# Altium schematic symbol library Analog Devices Amplifiers and Linear Comparators.SchLib: 160 symbols (part 4 of 9)
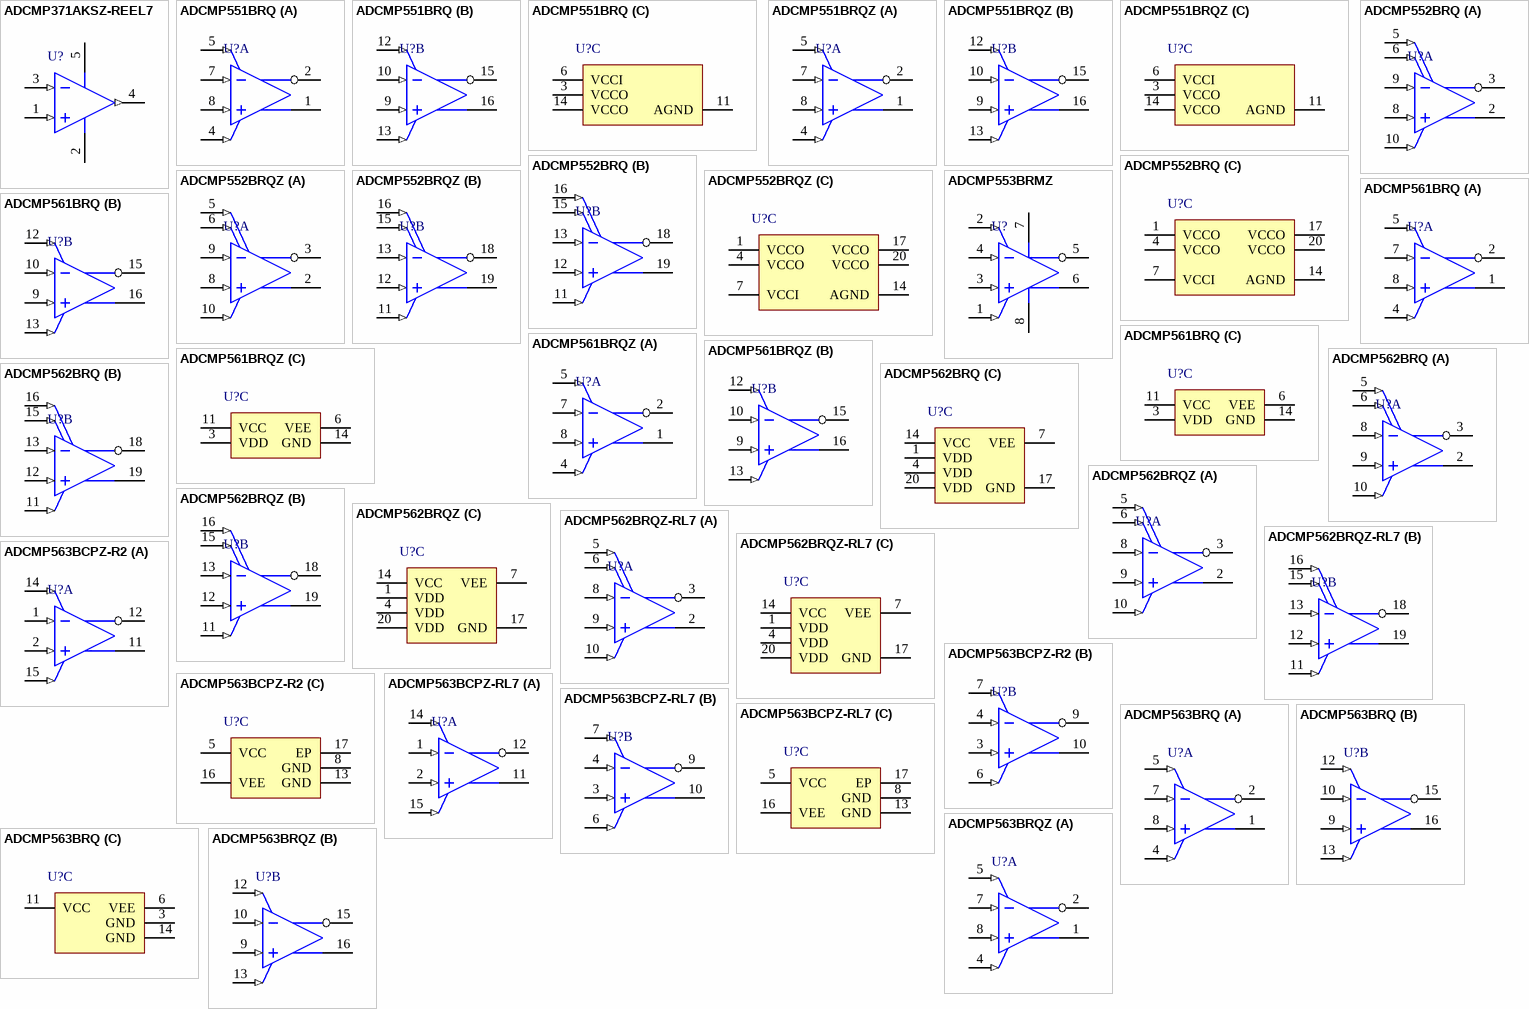
[diagram p10: symbols ADCMP371AKSZ-REEL7 to ADCMP563BRQZ]

## ADCMP551BRQZ
designator U?
Single-Supply, High Speed PECL / LVPECL Comparator, 3.3 to 5 V, 500 ps Delay, Industrial, 16-pin SOP (RQ-16), Tube; Manufacturer: Analog Devices; PartNumber: ADCMP551BRQZ; Input Range (V): -0.2 to VCCI-2; Voltage Supply (V): 3.135 to 5.25; DatasheetVersion: Rev. 0; PackageVersion: Aug-05; PackageReference: RQ-16; PackageDescription: 16-Pin Shrink Small Outline Package, Body 4.9 x 3.9 mm, Pitch 0.64 mm; Supplier 1: Digi-Key; Supplier Part Number 1: ADCMP551BRQZ-ND; Supplier 2: Mouser; Supplier Part Number 2: 584-ADCMP551BRQZ; Packing: Tube; Mounting Technology: Surface Mount; Code_JEDEC: MO-137-AB; ComponentLink1Description: Manufacturer URL; ComponentLink1URL: http://www.analog.com/en/index.html; ComponentLink2Description: Datasheet; ComponentLink2URL: http://www.analog.com/static/imported-files/data_sheets/ADCMP551_552_553.pdf; ComponentLink3Description: Package Specification; ComponentLink3URL: http://www.analog.com/static/imported-files/packages/5595549651201762937RQ_16.pdf; ComponentLink4Description: URL Link1; ComponentLink4URL: Product URL:http://www.analog.com/en/special-linear-functions/comparators/adcmp551/products/product.html
footprint ADI-RQ-16_N (SOP, 16-Leads, Body 4.9x3.9mm, Pitch 0.64mm, IPC Medium Density)
footprint ADI-RQ-16_L (SOP, 16-Leads, Body 4.9x3.9mm, Pitch 0.64mm, IPC High Density)
footprint ADI-RQ-16_M (SOP, 16-Leads, Body 4.9x3.9mm, Pitch 0.64mm, IPC Low Density)
part A pins: 1 QA (oe) "One of Two Complementary Outputs for Channel A. QA is logic high if the analog voltage at the noninverting input is greater than the analog voltage at the inverting input (provided the comparator is in the compare mode). See (See Datasheet)", 2 ~{QA} (oe) "One of Two Complementary Outputs for Channel A. Q\A\ is logic low if the analog voltage at the noninverting input is greater than the analog voltage at the inverting input (provided the comparator is in the compare mode). (See Datasheet)", 4 LEA (in) "One of Two Complementary Outputs for Channel A Latch Enable. In the compare mode (logic high), the output tracks changes at the input of the comparator. In the latch mode (logic low), the output reflects the input state just (See Datasheet)", 5 ~{LEA} (in) "One of Two Complementary Outputs for Channel A Latch Enable. In the compare mode (logic high), the output tracks changes at the input of the comparator. In the latch mode (logic low), the output reflects the input state just (See Datasheet)", 7 -INA (in) "Inverting Analog Input of the Differential Input Stage for Channel A. The inverting A input must be driven in conjunction with the noninverting A input.", 8 +INA (in) "Noninverting Analog Input of the Differential Input Stage for Channel A. The noninverting A input must be driven in conjunction with the inverting A input."
part B pins: 9 +INB (in) "Noninverting Analog Input of the Differential Input Stage for Channel B. The noninverting B input must be driven in conjunction with the inverting B input.", 10 -INB (in) "Inverting Analog Input of the Differential Input Stage for Channel B. The inverting B input must be driven in conjunction with the noninverting B input.", 12 ~{LEB} (in) "One of Two Complementary Inputs for Channel B Latch Enable. In the compare mode (logic low), the output tracks changes at the input of the comparator. In the latch mode (logic high), the output reflects the input state just (See Datasheet)", 13 LEB (in) "One of Two Complementary Inputs for Channel B Latch Enable. In the compare mode (logic low), the output tracks changes at the input of the comparator. In the latch mode (logic high), the output reflects the input state just (See Datasheet)", 15 ~{QB} (oe) "One of Two Complementary Outputs for Channel B. Q\B\ is logic low if the analog voltage at the noninverting input is greater than the analog voltage at the inverting input (provided the comparator is in the compare mode). (See Datasheet)", 16 QB (oe) "One of Two Complementary Outputs for Channel B. QB is logic low if the analog voltage at the noninverting input is greater than the analog voltage at the inverting input (provided the comparator is in the compare mode). See (See Datasheet)"
part C pins: 3 VCCO (power) "Logic Supply Terminal.", 6 VCCI (power) "Input Supply Terminal.", 11 AGND (power) "Analog Ground.", 14 VCCO (power) "Logic Supply Terminal."

## ADCMP552BRQ
designator U?
Single-Supply, High Speed PECL / LVPECL Comparator, 3.3 to 5 V, 500 ps Delay, Industrial, 20-pin SOP (RQ-20), Tube; Manufacturer: Analog Devices; PartNumber: ADCMP552BRQ; Input Range (V): -0.2 to VCCI-2; Voltage Supply (V): 3.135 to 5.25; DatasheetVersion: Rev. 0; PackageVersion: Aug-05; PackageReference: RQ-20; PackageDescription: 20-Pin Shrink Small Outline Package, Body 8.66 x 3.9 mm, Pitch 0.635 mm; Supplier 1: Digi-Key; Supplier Part Number 1: ADCMP552BRQ-ND; Supplier 2: Mouser; Supplier Part Number 2: 584-ADCMP552BRQ; Packing: Tube; Mounting Technology: Surface Mount; Code_JEDEC: MO-137-AD; ComponentLink1Description: Manufacturer URL; ComponentLink1URL: http://www.analog.com/en/index.html; ComponentLink2Description: Datasheet; ComponentLink2URL: http://www.analog.com/static/imported-files/data_sheets/ADCMP551_552_553.pdf; ComponentLink3Description: Package Specification; ComponentLink3URL: http:/www.analog.com/static/imported-files/packages/184195322RQ_20.pdf; ComponentLink4Description: URL Link1; ComponentLink4URL: Product URL:http://www.analog.com/en/special-linear-functions/comparators/adcmp552/products/product.html
footprint ADI-RQ-20_N (SOP, 20-Leads, Body 8.66x3.9mm, Pitch 0.635mm, IPC Medium Density)
footprint ADI-RQ-20_L (SOP, 20-Leads, Body 8.66x3.9mm, Pitch 0.635mm, IPC High Density)
footprint ADI-RQ-20_M (SOP, 20-Leads, Body 8.66x3.9mm, Pitch 0.635mm, IPC Low Density)
part A pins: 2 QA (oe) "One of Two Complementary Outputs for Channel A. QA is logic high if the analog voltage at the noninverting input is greater than the analog voltage at the inverting input (provided the comparator is in the compare mode). See (See Datasheet)", 3 ~{QA} (oe) "One of Two Complementary Outputs for Channel A. Q\A\ is logic low if the analog voltage at the noninverting input is greater than the analog voltage at the inverting input (provided the comparator is in the compare mode). (See Datasheet)", 5 LEA (in) "One of Two Complementary Outputs for Channel A Latch Enable. In the compare mode (logic high), the output tracks changes at the input of the comparator. In the latch mode (logic low), the output reflects the input state just (See Datasheet)", 6 ~{LEA} (in) "One of Two Complementary Outputs for Channel A Latch Enable. In the compare mode (logic high), the output tracks changes at the input of the comparator. In the latch mode (logic low), the output reflects the input state just (See Datasheet)", 8 -INA (in) "Inverting Analog Input of the Differential Input Stage for Channel A. The inverting A input must be driven in conjunction with the noninverting A input.", 9 +INA (in) "Noninverting Analog Input of the Differential Input Stage for Channel A. The noninverting A input must be driven in conjunction with the inverting A input.", 10 HYSA (in) "Programmable Hysteresis."
part B pins: 11 HYSB (in) "Programmable Hysteresis.", 12 +INB (in) "Noninverting Analog Input of the Differential Input Stage for Channel B. The noninverting B input must be driven in conjunction with the inverting B input.", 13 -INB (in) "Inverting Analog Input of the Differential Input Stage for Channel B. The inverting B input must be driven in conjunction with the noninverting B input.", 15 ~{LEB} (in) "One of Two Complementary Inputs for Channel B Latch Enable. In the compare mode (logic low), the output tracks changes at the input of the comparator. In the latch mode (logic high), the output reflects the input state just (See Datasheet)", 16 LEB (in) "One of Two Complementary Inputs for Channel B Latch Enable. In the compare mode (logic low), the output tracks changes at the input of the comparator. In the latch mode (logic high), the output reflects the input state just (See Datasheet)", 18 ~{QB} (oe) "One of Two Complementary Outputs for Channel B. Q\B\ is logic low if the analog voltage at the noninverting input is greater than the analog voltage at the inverting input (provided the comparator is in the compare mode). (See Datasheet)", 19 QB (oe) "One of Two Complementary Outputs for Channel B. QB is logic high if the analog voltage at the noninverting input is greater than the analog voltage at the inverting input (provided the comparator is in the compare mode). See (See Datasheet)"
part C pins: 1 VCCO (power) "Logic Supply Terminal.", 4 VCCO (power) "Logic Supply Terminal.", 7 VCCI (power) "Input Supply Terminal.", 14 AGND (power) "Analog Ground.", 17 VCCO (power) "Logic Supply Terminal.", 20 VCCO (power) "Logic Supply Terminal."

## ADCMP552BRQZ
designator U?
Single-Supply, High Speed PECL / LVPECL Comparator, 3.3 to 5 V, 750 ps Delay, Industrial, 20-pin SOP (RQ-20), Tube; Manufacturer: Analog Devices; PartNumber: ADCMP552BRQZ; Input Range (V): -0.2 to VCCI-2; Voltage Supply (V): 3.135 to 5.25; DatasheetVersion: Rev. 0; PackageVersion: Aug-05; PackageReference: RQ-20; PackageDescription: 20-Pin Shrink Small Outline Package, Body 8.66 x 3.9 mm, Pitch 0.635 mm; Supplier 1: Digi-Key; Supplier Part Number 1: ADCMP552BRQZ-ND; Supplier 2: Mouser; Supplier Part Number 2: 584-ADCMP552BRQZ; Packing: Tube; Mounting Technology: Surface Mount; Code_JEDEC: MO-137-AD; ComponentLink1Description: Manufacturer URL; ComponentLink1URL: http://www.analog.com/en/index.html; ComponentLink2Description: Datasheet; ComponentLink2URL: http://www.analog.com/static/imported-files/data_sheets/ADCMP551_552_553.pdf; ComponentLink3Description: Package Specification; ComponentLink3URL: http:/www.analog.com/static/imported-files/packages/184195322RQ_20.pdf; ComponentLink4Description: URL Link1; ComponentLink4URL: Product URL:http://www.analog.com/en/special-linear-functions/comparators/adcmp552/products/product.html
footprint ADI-RQ-20_N (SOP, 20-Leads, Body 8.66x3.9mm, Pitch 0.635mm, IPC Medium Density)
footprint ADI-RQ-20_L (SOP, 20-Leads, Body 8.66x3.9mm, Pitch 0.635mm, IPC High Density)
footprint ADI-RQ-20_M (SOP, 20-Leads, Body 8.66x3.9mm, Pitch 0.635mm, IPC Low Density)
part A pins: 2 QA (oe) "One of Two Complementary Outputs for Channel A. QA is logic high if the analog voltage at the noninverting input is greater than the analog voltage at the inverting input (provided the comparator is in the compare mode). See (See Datasheet)", 3 ~{QA} (oe) "One of Two Complementary Outputs for Channel A. Q\A\ is logic low if the analog voltage at the noninverting input is greater than the analog voltage at the inverting input (provided the comparator is in the compare mode). (See Datasheet)", 5 LEA (in) "One of Two Complementary Outputs for Channel A Latch Enable. In the compare mode (logic high), the output tracks changes at the input of the comparator. In the latch mode (logic low), the output reflects the input state just (See Datasheet)", 6 ~{LEA} (in) "One of Two Complementary Outputs for Channel A Latch Enable. In the compare mode (logic high), the output tracks changes at the input of the comparator. In the latch mode (logic low), the output reflects the input state just (See Datasheet)", 8 -INA (in) "Inverting Analog Input of the Differential Input Stage for Channel A. The inverting A input must be driven in conjunction with the noninverting A input.", 9 +INA (in) "Noninverting Analog Input of the Differential Input Stage for Channel A. The noninverting A input must be driven in conjunction with the inverting A input.", 10 HYSA (in) "Programmable Hysteresis."
part B pins: 11 HYSB (in) "Programmable Hysteresis.", 12 +INB (in) "Noninverting Analog Input of the Differential Input Stage for Channel B. The noninverting B input must be driven in conjunction with the inverting B input.", 13 -INB (in) "Inverting Analog Input of the Differential Input Stage for Channel B. The inverting B input must be driven in conjunction with the noninverting B input.", 15 ~{LEB} (in) "One of Two Complementary Inputs for Channel B Latch Enable. In the compare mode (logic low), the output tracks changes at the input of the comparator. In the latch mode (logic high), the output reflects the input state just (See Datasheet)", 16 LEB (in) "One of Two Complementary Inputs for Channel B Latch Enable. In the compare mode (logic low), the output tracks changes at the input of the comparator. In the latch mode (logic high), the output reflects the input state just (See Datasheet)", 18 ~{QB} (oe) "One of Two Complementary Outputs for Channel B. Q\B\ is logic low if the analog voltage at the noninverting input is greater than the analog voltage at the inverting input (provided the comparator is in the compare mode). (See Datasheet)", 19 QB (oe) "One of Two Complementary Outputs for Channel B. QB is logic high if the analog voltage at the noninverting input is greater than the analog voltage at the inverting input (provided the comparator is in the compare mode). See (See Datasheet)"
part C pins: 1 VCCO (power) "Logic Supply Terminal.", 4 VCCO (power) "Logic Supply Terminal.", 7 VCCI (power) "Input Supply Terminal.", 14 AGND (power) "Analog Ground.", 17 VCCO (power) "Logic Supply Terminal.", 20 VCCO (power) "Logic Supply Terminal."

## ADCMP553BRMZ
designator U?
Single-Supply, High Speed PECL / LVPECL Comparator, 3.135 to 5.25 V, 500 ps Delay, Industrial, 8-pin SOP (RM-8), Tube; Manufacturer: Analog Devices; PartNumber: ADCMP553BRMZ; Input Range (V): -0.2 to VCCI-2; DatasheetVersion: Rev. 0; PackageVersion: Aug-05; PackageReference: RM-8; PackageDescription: 8-Pin Mini Small Outline Package, Body 3 x 3 mm, Pitch 0.65 mm; Supplier 1: Digi-Key; Supplier Part Number 1: ADCMP553BRMZ-ND; Supplier 2: Farnell; Supplier Part Number 2: 2295993; Supplier 3: Mouser; Supplier Part Number 3: 584-ADCMP553BRMZ; Packing: Tube; Voltage Supply (V): 3.135 to 5.25; Mounting Technology: Surface Mount; Code_JEDEC: MO-187-AA; ComponentLink1Description: Manufacturer URL; ComponentLink1URL: http://www.analog.com/en/index.html; ComponentLink2Description: Datasheet; ComponentLink2URL: http://www.analog.com/static/imported-files/data_sheets/ADCMP551_552_553.pdf; ComponentLink3Description: Package Specification; ComponentLink3URL: http://www.analog.com/static/imported-files/packages/PKG_PDF/MSOP%28RM%29/RM_8.pdf; ComponentLink4Description: URL Link1; ComponentLink4URL: Product URL:http://www.analog.com/en/special-linear-functions/comparators/adcmp553/products/product.html
footprint ADI-RM-8_N (SOP, 8-Leads, Body 3x3mm, Pitch 0.65mm, IPC Medium Density)
footprint ADI-RM-8_L (SOP, 8-Leads, Body 3x3mm, Pitch 0.65mm, IPC High Density)
footprint ADI-RM-8_M (SOP, 8-Leads, Body 3x3mm, Pitch 0.65mm, IPC Low Density)
pins: 1 ~{LEA} (in) "One of Two Complementary Outputs for Channel A Latch Enable. In the compare mode (logic high), the output tracks changes at the input of the comparator. In the latch mode (logic low), the output reflects the input state just (See Datasheet)", 2 LEA (in) "One of Two Complementary Outputs for Channel A Latch Enable. In the compare mode (logic high), the output tracks changes at the input of the comparator. In the latch mode (logic low), the output reflects the input state just (See Datasheet)", 3 +INA (in) "Noninverting Analog Input of the Differential Input Stage for Channel A. The noninverting A input must be driven in conjunction with the inverting A input.", 4 -INA (in) "Inverting Analog Input of the Differential Input Stage for Channel A. The inverting A input must be driven in conjunction with the noninverting A input.", 5 ~{QA} (oe) "One of Two Complementary Outputs for Channel A. Q\A\ is logic high if the analog voltage at the noninverting input is greater than the analog voltage at the inverting input (provided the comparator is in the compare mode). (See Datasheet)", 6 QA (oe) "One of Two Complementary Outputs for Channel A. QA is logic high if the analog voltage at the noninverting input is greater than the analog voltage at the inverting input (provided the comparator is in the compare mode). See (See Datasheet)", 7 VCC (power) "Input Supply Terminal.", 8 AGND (power) "Analog Ground."

## ADCMP561BRQ
designator U?
Dual High Speed PECL Comparator, 5, - 5.2 V, 750 ps Delay, Industrial, 16-pin SOP (RQ-16), Tube; Manufacturer: Analog Devices; PartNumber: ADCMP561BRQ; Input Range (V): -2 to 3; Voltage Supply (V): 5, -5.2; DatasheetVersion: Rev. A; PackageVersion: Aug-05; PackageReference: RQ-16; PackageDescription: 16-Pin Shrink Small Outline Package, Body 4.9 x 3.9 mm, Pitch 0.64 mm; Supplier 1: Digi-Key; Supplier Part Number 1: ADCMP561BRQ-ND; Supplier 2: Mouser; Supplier Part Number 2: N/A; Packing: Tube; Mounting Technology: Surface Mount; Code_JEDEC: MO-137-AB; ComponentLink1Description: Manufacturer URL; ComponentLink1URL: http://www.analog.com/en/index.html; ComponentLink2Description: Datasheet; ComponentLink2URL: http://www.analog.com/static/imported-files/data_sheets/ADCMP561_562.pdf; ComponentLink3Description: Package Specification; ComponentLink3URL: http://www.analog.com/static/imported-files/packages/5595549651201762937RQ_16.pdf; ComponentLink4Description: URL Link1; ComponentLink4URL: Product URL:http://www.analog.com/en/special-linear-functions/comparators/adcmp561/products/product.html
footprint ADI-RQ-16_N (SOP, 16-Leads, Body 4.9x3.9mm, Pitch 0.64mm, IPC Medium Density)
footprint ADI-RQ-16_L (SOP, 16-Leads, Body 4.9x3.9mm, Pitch 0.64mm, IPC High Density)
footprint ADI-RQ-16_M (SOP, 16-Leads, Body 4.9x3.9mm, Pitch 0.64mm, IPC Low Density)
part A pins: 1 QA (oe) "One of two complementary outputs for Channel A. QA is logic high if the analog voltage at the noninverting input is greater than the analog voltage at the inverting input (provided the comparator is in compare mode). See the (See Datasheet)", 2 ~{QA} (oe) "One of two complementary outputs for Channel A. Q\A\ is logic low if the analog voltage at the noninverting input is greater than the analog voltage at the inverting input (provided the comparator is in compare mode). See (See Datasheet)", 4 LEA (in) "One of two complementary inputs for Channel A Latch Enable. In compare mode (logic high), the output tracks changes at the input of the comparator. In the latch mode (logic low), the output reflects the input state just (See Datasheet)", 5 ~{LEA} (in) "One of two complementary inputs for Channel A Latch Enable. In compare mode (logic low), the output tracks changes at the input of the comparator. In latch mode (logic high), the output reflects the input state just prior to (See Datasheet)", 7 -INA (in) "Inverting Analog Input of the Differential Input Stage for Channel A. The inverting A input must be driven in conjunction with the noninverting A input.", 8 +INA (in) "Noninverting Analog Input of the Differential Input Stage for Channel A. The noninverting A input must be driven in conjunction with the inverting A input."
part B pins: 9 +INB (in) "Noninverting Analog Input of the Differential Input Stage for Channel B. The noninverting B input must be driven in conjunction with the inverting B input.", 10 -INB (in) "Inverting Analog Input of the Differential Input Stage for Channel B. The inverting B input must be driven in conjunction with the noninverting B input.", 12 ~{LEB} (in) "One of two complementary inputs for Channel B Latch Enable. In compare mode (logic low), the output tracks changes at the input of the comparator. In latch mode (logic high), the output reflects the input state just prior to (See Datasheet)", 13 LEB (in) "One of two complementary inputs for Channel B Latch Enable. In compare mode (logic high), the output tracks changes at the input of the comparator. In latch mode (logic low), the output reflects the input state just prior to (See Datasheet)", 15 ~{QB} (oe) "One of two complementary outputs for Channel B. Q\B\ is logic low if the analog voltage at the noninverting input is greater than the analog voltage at the inverting input (provided the comparator is in compare mode). See (See Datasheet)", 16 QB (oe) "One of two complementary outputs for Channel B. QB is logic high if the analog voltage at the noninverting input is greater than the analog voltage at the inverting input (provided the comparator is in compare mode). See the (See Datasheet)"
part C pins: 3 VDD (power) "Logic Supply Terminal.", 6 VEE (power) "Negative Supply Terminal.", 11 VCC (power) "Positive Supply Terminal.", 14 GND (power) "Analog Ground."

## ADCMP561BRQZ
designator U?
Dual High Speed PECL Comparator, 5, - 5.2 V, 750 ps Delay, Industrial, 16-pin SOP (RQ-16), Tube; Manufacturer: Analog Devices; PartNumber: ADCMP561BRQZ; Input Range (V): -2 to 3; Voltage Supply (V): 5, -5.2; DatasheetVersion: Rev. A; PackageVersion: Aug-05; PackageReference: RQ-16; PackageDescription: 16-Pin Shrink Small Outline Package, Body 4.9 x 3.9 mm, Pitch 0.64 mm; Supplier 1: Digi-Key; Supplier Part Number 1: ADCMP561BRQZ-ND; Supplier 2: Farnell; Supplier Part Number 2: 1438725; Supplier 3: Mouser; Supplier Part Number 3: 584-ADCMP561BRQZ; Packing: Tube; Mounting Technology: Surface Mount; Code_JEDEC: MO-137-AB; ComponentLink1Description: Manufacturer URL; ComponentLink1URL: http://www.analog.com/en/index.html; ComponentLink2Description: Datasheet; ComponentLink2URL: http://www.analog.com/static/imported-files/data_sheets/ADCMP561_562.pdf; ComponentLink3Description: Package Specification; ComponentLink3URL: http://www.analog.com/static/imported-files/packages/5595549651201762937RQ_16.pdf; ComponentLink4Description: URL Link1; ComponentLink4URL: Product URL:http://www.analog.com/en/special-linear-functions/comparators/adcmp561/products/product.html
footprint ADI-RQ-16_N (SOP, 16-Leads, Body 4.9x3.9mm, Pitch 0.64mm, IPC Medium Density)
footprint ADI-RQ-16_L (SOP, 16-Leads, Body 4.9x3.9mm, Pitch 0.64mm, IPC High Density)
footprint ADI-RQ-16_M (SOP, 16-Leads, Body 4.9x3.9mm, Pitch 0.64mm, IPC Low Density)
part A pins: 1 QA (oe) "One of two complementary outputs for Channel A. QA is logic high if the analog voltage at the noninverting input is greater than the analog voltage at the inverting input (provided the comparator is in compare mode). See the (See Datasheet)", 2 ~{QA} (oe) "One of two complementary outputs for Channel A. Q\A\ is logic low if the analog voltage at the noninverting input is greater than the analog voltage at the inverting input (provided the comparator is in compare mode). See (See Datasheet)", 4 LEA (in) "One of two complementary inputs for Channel A Latch Enable. In compare mode (logic high), the output tracks changes at the input of the comparator. In the latch mode (logic low), the output reflects the input state just (See Datasheet)", 5 ~{LEA} (in) "One of two complementary inputs for Channel A Latch Enable. In compare mode (logic low), the output tracks changes at the input of the comparator. In latch mode (logic high), the output reflects the input state just prior to (See Datasheet)", 7 -INA (in) "Inverting Analog Input of the Differential Input Stage for Channel A. The inverting A input must be driven in conjunction with the noninverting A input.", 8 +INA (in) "Noninverting Analog Input of the Differential Input Stage for Channel A. The noninverting A input must be driven in conjunction with the inverting A input."
part B pins: 9 +INB (in) "Noninverting Analog Input of the Differential Input Stage for Channel B. The noninverting B input must be driven in conjunction with the inverting B input.", 10 -INB (in) "Inverting Analog Input of the Differential Input Stage for Channel B. The inverting B input must be driven in conjunction with the noninverting B input.", 12 ~{LEB} (in) "One of two complementary inputs for Channel B Latch Enable. In compare mode (logic low), the output tracks changes at the input of the comparator. In latch mode (logic high), the output reflects the input state just prior to (See Datasheet)", 13 LEB (in) "One of two complementary inputs for Channel B Latch Enable. In compare mode (logic high), the output tracks changes at the input of the comparator. In latch mode (logic low), the output reflects the input state just prior to (See Datasheet)", 15 ~{QB} (oe) "One of two complementary outputs for Channel B. Q\B\ is logic low if the analog voltage at the noninverting input is greater than the analog voltage at the inverting input (provided the comparator is in compare mode). See (See Datasheet)", 16 QB (oe) "One of two complementary outputs for Channel B. QB is logic high if the analog voltage at the noninverting input is greater than the analog voltage at the inverting input (provided the comparator is in compare mode). See the (See Datasheet)"
part C pins: 3 VDD (power) "Logic Supply Terminal.", 6 VEE (power) "Negative Supply Terminal.", 11 VCC (power) "Positive Supply Terminal.", 14 GND (power) "Analog Ground."

## ADCMP562BRQ
designator U?
Dual High Speed PECL Comparator, 5, - 5.2 V, 750 ps Delay, Industrial, 20-pin SOP (RQ-20), Tube; Manufacturer: Analog Devices; PartNumber: ADCMP562BRQ; Input Range (V): -2 to 3; Voltage Supply (V): 5, -5.2; DatasheetVersion: Rev. A; PackageVersion: Aug-05; PackageReference: RQ-20; PackageDescription: 20-Pin Shrink Small Outline Package, Body 8.66 x 3.9 mm, Pitch 0.635 mm; Supplier 1: Digi-Key; Supplier Part Number 1: ADCMP562BRQ-ND; Supplier 2: Mouser; Supplier Part Number 2: 584-ADCMP562BRQ; Packing: Tube; Mounting Technology: Surface Mount; Code_JEDEC: MO-137-AD; ComponentLink1Description: Manufacturer URL; ComponentLink1URL: http://www.analog.com/en/index.html; ComponentLink2Description: Datasheet; ComponentLink2URL: http://www.analog.com/static/imported-files/data_sheets/ADCMP561_562.pdf; ComponentLink3Description: Package Specification; ComponentLink3URL: http:/www.analog.com/static/imported-files/packages/184195322RQ_20.pdf; ComponentLink4Description: URL Link1; ComponentLink4URL: Product URL:http://www.analog.com/en/special-linear-functions/comparators/adcmp562/products/product.html
footprint ADI-RQ-20_N (SOP, 20-Leads, Body 8.66x3.9mm, Pitch 0.635mm, IPC Medium Density)
footprint ADI-RQ-20_L (SOP, 20-Leads, Body 8.66x3.9mm, Pitch 0.635mm, IPC High Density)
footprint ADI-RQ-20_M (SOP, 20-Leads, Body 8.66x3.9mm, Pitch 0.635mm, IPC Low Density)
part A pins: 2 QA (oe) "One of two complementary outputs for Channel A. QA is logic high if the analog voltage at the noninverting input is greater than the analog voltage at the inverting input (provided the comparator is in compare mode). See the (See Datasheet)", 3 ~{QA} (oe) "One of two complementary outputs for Channel A. Q\A\ is logic low if the analog voltage at the noninverting input is greater than the analog voltage at the inverting input (provided the comparator is in compare mode). See (See Datasheet)", 5 LEA (in) "One of two complementary inputs for Channel A Latch Enable. In compare mode (logic high), the output tracks changes at the input of the comparator. In the latch mode (logic low), the output reflects the input state just (See Datasheet)", 6 ~{LEA} (in) "One of two complementary inputs for Channel A Latch Enable. In compare mode (logic low), the output tracks changes at the input of the comparator. In latch mode (logic high), the output reflects the input state just prior to (See Datasheet)", 8 -INA (in) "Inverting Analog Input of the Differential Input Stage for Channel A. The inverting A input must be driven in conjunction with the noninverting A input.", 9 +INA (in) "Noninverting Analog Input of the Differential Input Stage for Channel A. The noninverting A input must be driven in conjunction with the inverting A input.", 10 HYSA (in) "Programmable Hysteresis Input."
part B pins: 11 HYSB (in) "Programmable Hysteresis Input.", 12 +INB (in) "Noninverting Analog Input of the Differential Input Stage for Channel B. The noninverting B input must be driven in conjunction with the inverting B input.", 13 -INB (in) "Inverting Analog Input of the Differential Input Stage for Channel B. The inverting B input must be driven in conjunction with the noninverting B input.", 15 ~{LEB} (in) "One of two complementary inputs for Channel B Latch Enable. In compare mode (logic low), the output tracks changes at the input of the comparator. In latch mode (logic high), the output reflects the input state just prior to (See Datasheet)", 16 LEB (in) "One of two complementary inputs for Channel B Latch Enable. In compare mode (logic high), the output tracks changes at the input of the comparator. In latch mode (logic low), the output reflects the input state just prior to (See Datasheet)", 18 ~{QB} (oe) "One of two complementary outputs for Channel B. Q\B\ is logic low if the analog voltage at the noninverting input is greater than the analog voltage at the inverting input (provided the comparator is in compare mode). See (See Datasheet)", 19 QB (oe) "One of two complementary outputs for Channel B. QB is logic high if the analog voltage at the noninverting input is greater than the analog voltage at the inverting input (provided the comparator is in compare mode). See the (See Datasheet)"
part C pins: 1 VDD (power) "Logic Supply Terminal.", 4 VDD (power) "Logic Supply Terminal.", 7 VEE (power) "Negative Supply Terminal.", 14 VCC (power) "Positive Supply Terminal.", 17 GND (power) "Analog Ground.", 20 VDD (power) "Logic Supply Terminal."

## ADCMP562BRQZ
designator U?
Dual High Speed PECL Comparator, 5, - 5.2 V, 750 ps Delay, Industrial, 20-pin SOP (RQ-20), Tube; Manufacturer: Analog Devices; PartNumber: ADCMP562BRQZ; Input Range (V): -2 to 3; Voltage Supply (V): 5, -5.2; DatasheetVersion: Rev. A; PackageVersion: Aug-05; PackageReference: RQ-20; PackageDescription: 20-Pin Shrink Small Outline Package, Body 8.66 x 3.9 mm, Pitch 0.635 mm; Supplier 1: Digi-Key; Supplier Part Number 1: ADCMP562BRQZ-ND; Supplier 2: Farnell; Supplier Part Number 2: 1438726; Supplier 3: Mouser; Supplier Part Number 3: 584-ADCMP562BRQZ; Packing: Tube; Mounting Technology: Surface Mount; Code_JEDEC: MO-137-AD; ComponentLink1Description: Manufacturer URL; ComponentLink1URL: http://www.analog.com/en/index.html; ComponentLink2Description: Datasheet; ComponentLink2URL: http://www.analog.com/static/imported-files/data_sheets/ADCMP561_562.pdf; ComponentLink3Description: Package Specification; ComponentLink3URL: http:/www.analog.com/static/imported-files/packages/184195322RQ_20.pdf; ComponentLink4Description: URL Link1; ComponentLink4URL: Product URL:http://www.analog.com/en/special-linear-functions/comparators/adcmp562/products/product.html
footprint ADI-RQ-20_N (SOP, 20-Leads, Body 8.66x3.9mm, Pitch 0.635mm, IPC Medium Density)
footprint ADI-RQ-20_L (SOP, 20-Leads, Body 8.66x3.9mm, Pitch 0.635mm, IPC High Density)
footprint ADI-RQ-20_M (SOP, 20-Leads, Body 8.66x3.9mm, Pitch 0.635mm, IPC Low Density)
part A pins: 2 QA (oe) "One of two complementary outputs for Channel A. QA is logic high if the analog voltage at the noninverting input is greater than the analog voltage at the inverting input (provided the comparator is in compare mode). See the (See Datasheet)", 3 ~{QA} (oe) "One of two complementary outputs for Channel A. Q\A\ is logic low if the analog voltage at the noninverting input is greater than the analog voltage at the inverting input (provided the comparator is in compare mode). See (See Datasheet)", 5 LEA (in) "One of two complementary inputs for Channel A Latch Enable. In compare mode (logic high), the output tracks changes at the input of the comparator. In the latch mode (logic low), the output reflects the input state just (See Datasheet)", 6 ~{LEA} (in) "One of two complementary inputs for Channel A Latch Enable. In compare mode (logic low), the output tracks changes at the input of the comparator. In latch mode (logic high), the output reflects the input state just prior to (See Datasheet)", 8 -INA (in) "Inverting Analog Input of the Differential Input Stage for Channel A. The inverting A input must be driven in conjunction with the noninverting A input.", 9 +INA (in) "Noninverting Analog Input of the Differential Input Stage for Channel A. The noninverting A input must be driven in conjunction with the inverting A input.", 10 HYSA (in) "Programmable Hysteresis Input."
part B pins: 11 HYSB (in) "Programmable Hysteresis Input.", 12 +INB (in) "Noninverting Analog Input of the Differential Input Stage for Channel B. The noninverting B input must be driven in conjunction with the inverting B input.", 13 -INB (in) "Inverting Analog Input of the Differential Input Stage for Channel B. The inverting B input must be driven in conjunction with the noninverting B input.", 15 ~{LEB} (in) "One of two complementary inputs for Channel B Latch Enable. In compare mode (logic low), the output tracks changes at the input of the comparator. In latch mode (logic high), the output reflects the input state just prior to (See Datasheet)", 16 LEB (in) "One of two complementary inputs for Channel B Latch Enable. In compare mode (logic high), the output tracks changes at the input of the comparator. In latch mode (logic low), the output reflects the input state just prior to (See Datasheet)", 18 ~{QB} (oe) "One of two complementary outputs for Channel B. Q\B\ is logic low if the analog voltage at the noninverting input is greater than the analog voltage at the inverting input (provided the comparator is in compare mode). See (See Datasheet)", 19 QB (oe) "One of two complementary outputs for Channel B. QB is logic high if the analog voltage at the noninverting input is greater than the analog voltage at the inverting input (provided the comparator is in compare mode). See the (See Datasheet)"
part C pins: 1 VDD (power) "Logic Supply Terminal.", 4 VDD (power) "Logic Supply Terminal.", 7 VEE (power) "Negative Supply Terminal.", 14 VCC (power) "Positive Supply Terminal.", 17 GND (power) "Analog Ground.", 20 VDD (power) "Logic Supply Terminal."

## ADCMP562BRQZ-RL7
designator U?
Dual High Speed PECL Comparator, 5, - 5.2 V, 700 ps Delay, Commercial, 20-pin SOP (RQ-20), Reel; Manufacturer: Analog Devices; PartNumber: ADCMP562BRQZ-RL7; Input Range (V): -2 to 3; Voltage Supply (V): 5, -5.2; DatasheetVersion: Rev. A; PackageVersion: Aug-05; PackageReference: RQ-20; PackageDescription: 20-Pin Shrink Small Outline Package, Body 8.66 x 3.9 mm, Pitch 0.635 mm; Supplier 1: Digi-Key; Supplier Part Number 1: ADCMP562BRQZ-RL7TR-ND; Supplier 2: Digi-Key; Supplier Part Number 2: ADCMP562BRQZ-RL7CT-ND; Supplier 3: Digi-Key; Supplier Part Number 3: ADCMP562BRQZ-RL7DKR-ND; Supplier 4: Mouser; Supplier Part Number 4: 584-ADCMP562BRQZ-R7; Packing: Reel; Mounting Technology: Surface Mount; Code_JEDEC: MO-137-AD; ComponentLink1Description: Manufacturer URL; ComponentLink1URL: http://www.analog.com/en/index.html; ComponentLink2Description: Datasheet; ComponentLink2URL: http://www.analog.com/static/imported-files/data_sheets/ADCMP561_562.pdf; ComponentLink3Description: Package Specification; ComponentLink3URL: http:/www.analog.com/static/imported-files/packages/184195322RQ_20.pdf; ComponentLink4Description: URL Link1; ComponentLink4URL: Product URL:http://www.analog.com/en/special-linear-functions/comparators/adcmp562/products/product.html
footprint ADI-RQ-20_N (SOP, 20-Leads, Body 8.66x3.9mm, Pitch 0.635mm, IPC Medium Density)
footprint ADI-RQ-20_L (SOP, 20-Leads, Body 8.66x3.9mm, Pitch 0.635mm, IPC High Density)
footprint ADI-RQ-20_M (SOP, 20-Leads, Body 8.66x3.9mm, Pitch 0.635mm, IPC Low Density)
part A pins: 2 QA (oe) "One of two complementary outputs for Channel A. QA is logic high if the analog voltage at the noninverting input is greater than the analog voltage at the inverting input (provided the comparator is in compare mode). See the (See Datasheet)", 3 ~{QA} (oe) "One of two complementary outputs for Channel A. Q\A\ is logic low if the analog voltage at the noninverting input is greater than the analog voltage at the inverting input (provided the comparator is in compare mode). See (See Datasheet)", 5 LEA (in) "One of two complementary inputs for Channel A Latch Enable. In compare mode (logic high), the output tracks changes at the input of the comparator. In the latch mode (logic low), the output reflects the input state just (See Datasheet)", 6 ~{LEA} (in) "One of two complementary inputs for Channel A Latch Enable. In compare mode (logic low), the output tracks changes at the input of the comparator. In latch mode (logic high), the output reflects the input state just prior to (See Datasheet)", 8 -INA (in) "Inverting Analog Input of the Differential Input Stage for Channel A. The inverting A input must be driven in conjunction with the noninverting A input.", 9 +INA (in) "Noninverting Analog Input of the Differential Input Stage for Channel A. The noninverting A input must be driven in conjunction with the inverting A input.", 10 HYSA (in) "Programmable Hysteresis Input."
part B pins: 11 HYSB (in) "Programmable Hysteresis Input.", 12 +INB (in) "Noninverting Analog Input of the Differential Input Stage for Channel B. The noninverting B input must be driven in conjunction with the inverting B input.", 13 -INB (in) "Inverting Analog Input of the Differential Input Stage for Channel B. The inverting B input must be driven in conjunction with the noninverting B input.", 15 ~{LEB} (in) "One of two complementary inputs for Channel B Latch Enable. In compare mode (logic low), the output tracks changes at the input of the comparator. In latch mode (logic high), the output reflects the input state just prior to (See Datasheet)", 16 LEB (in) "One of two complementary inputs for Channel B Latch Enable. In compare mode (logic high), the output tracks changes at the input of the comparator. In latch mode (logic low), the output reflects the input state just prior to (See Datasheet)", 18 ~{QB} (oe) "One of two complementary outputs for Channel B. Q\B\ is logic low if the analog voltage at the noninverting input is greater than the analog voltage at the inverting input (provided the comparator is in compare mode). See (See Datasheet)", 19 QB (oe) "One of two complementary outputs for Channel B. QB is logic high if the analog voltage at the noninverting input is greater than the analog voltage at the inverting input (provided the comparator is in compare mode). See the (See Datasheet)"
part C pins: 1 VDD (power) "Logic Supply Terminal.", 4 VDD (power) "Logic Supply Terminal.", 7 VEE (power) "Negative Supply Terminal.", 14 VCC (power) "Positive Supply Terminal.", 17 GND (power) "Analog Ground.", 20 VDD (power) "Logic Supply Terminal."

## ADCMP563BCPZ-R2
designator U?
Dual High Speed ECL Comparator, 5, - 5.2 V, 750 ps Delay, Industrial, 16-pin QFN (CP-16-3), Reel; Manufacturer: Analog Devices; PartNumber: ADCMP563BCPZ-R2; Input Range (V): -2 to 3; Voltage Supply (V): 5, -5.2; DatasheetVersion: Rev. C; PackageReference: CP-16-3; PackageDescription: 16-Pin Lead Frame Chip Scale Package, Body 3 x 3 mm, Pitch 0.5 mm; Supplier 1: Digi-Key; Supplier Part Number 1: ADCMP563BCPZ-R2-ND; Supplier 2: Mouser; Supplier Part Number 2: 584-ADCMP563BCPZ-R2; Packing: Reel; Mounting Technology: Surface Mount; Code_JEDEC: MO-220-VEED-2; ComponentLink1Description: Manufacturer URL; ComponentLink1URL: http://www.analog.com/en/index.html; ComponentLink2Description: Datasheet; ComponentLink2URL: http://www.analog.com/static/imported-files/data_sheets/ADCMP563_564.pdf; ComponentLink3Description: Package Specification; ComponentLink3URL: http://www.analog.com/static/imported-files/packages/PKG_PDF/LFCSP(CP)/CP_16_3.pdf; ComponentLink4Description: URL Link1; ComponentLink4URL: Product URL:http://www.analog.com/en/special-linear-functions/comparators/adcmp563/products/product.html
footprint ADI-CP-16-3_N (QFN, 16-Leads, Body 3x3mm, Pitch 0.5mm, Thermal Pad 1.5x1.5mm, IPC Medium Density)
footprint ADI-CP-16-3_L (QFN, 16-Leads, Body 3x3mm, Pitch 0.5mm, Thermal Pad 1.5x1.5mm, IPC High Density)
footprint ADI-CP-16-3_M (QFN, 16-Leads, Body 3x3mm, Pitch 0.5mm, Thermal Pad 1.5x1.5mm, IPC Low Density)
part A pins: 1 -INA (in) "Inverting Analog Input of the Differential Input Stage for Channel A. The Inverting A input must be driven in conjunction with the Noninverting A input.", 2 +INA (in) "Noninverting Analog Input of the Differential Input Stage for Channel A. The Noninverting A input must be driven in conjunction with the Inverting A input.", 11 QA (oe) "One of Two Complementary Outputs for Channel A. QA is logic high if the analog voltage at the noninverting input is greater than the analog voltage at the inverting input (provided the comparator is in compare mode). See the (See Datasheet)", 12 ~{QA} (oe) "One of Two Complementary Outputs for Channel A. Q\A\ is logic low if the analog voltage at the noninverting input is greater than the analog voltage at the inverting input (provided the comparator is in compare mode). See (See Datasheet)", 14 LEA (in) "One of Two Complementary Inputs for Channel A Latch Enable. In compare mode (logic high), the output tracks change at the input of the comparator. In latch mode (logic low), the output reflects the input state just prior to (See Datasheet)", 15 ~{LEA} (in) "One of Two Complementary Inputs for Channel A Latch Enable. In compare mode (logic low), the output tracks change at the input of the comparator. In latch mode (logic high), the output reflects the input state just prior to (See Datasheet)"
part B pins: 3 +INB (in) "Noninverting Analog Input of the Differential Input Stage for Channel B. The Noninverting B input must be driven in conjunction with the Inverting B input.", 4 -INB (in) "Inverting Analog Input of the Differential Input Stage for Channel B. The Inverting B input must be driven in conjunction with the Noninverting B input.", 6 ~{LEB} (in) "One of Two Complementary Inputs for Channel B Latch Enable. In compare mode (logic low), the output tracks change at the input of the comparator. In latch mode (logic high), the output reflects the input state just prior to (See Datasheet)", 7 LEB (in) "One of Two Complementary Inputs for Channel B Latch Enable. In compare mode (logic high), the output tracks change at the input of the comparator. In latch mode (logic low), the output reflects the input state just prior to (See Datasheet)", 9 ~{QB} (oe) "One of Two Complementary Outputs for Channel B. Q\B\ is logic low if the analog voltage at the noninverting input is greater than the analog voltage at the inverting input (provided the comparator is in compare mode). See (See Datasheet)", 10 QB (oe) "One of Two Complementary Outputs for Channel B. QB is logic high if the analog voltage at the noninverting input is greater than the analog voltage at the inverting input (provided the comparator is in compare mode). See the (See Datasheet)"
part C pins: 5 VCC (power) "Positive Supply Terminal.", 8 GND (power) "Analog Ground.", 13 GND (power) "Analog Ground.", 16 VEE (power) "Negative Supply Terminal.", 17 EP (power) "Exposed Pad. The exposed pad should be either connected to VEE or left floating."

## ADCMP563BCPZ-RL7
designator U?
Dual High Speed ECL Comparator, 5, - 5.2 V, 750 ps Delay, Commercial, 16-pin QFN (CP-16-3), Reel; Manufacturer: Analog Devices; PartNumber: ADCMP563BCPZ-RL7; Input Range (V): -2 to 3; Voltage Supply (V): 5, -5.2; DatasheetVersion: Rev. C; PackageReference: CP-16-3; PackageDescription: 16-Pin Lead Frame Chip Scale Package, Body 3 x 3 mm, Pitch 0.5 mm; Supplier 1: Mouser; Supplier Part Number 1: 584-ADCMP563BCPZ-R7; Packing: Reel; Mounting Technology: Surface Mount; Code_JEDEC: MO-220-VEED-2; ComponentLink1Description: Manufacturer URL; ComponentLink1URL: http://www.analog.com/en/index.html; ComponentLink2Description: Datasheet; ComponentLink2URL: http://www.analog.com/static/imported-files/data_sheets/ADCMP563_564.pdf; ComponentLink3Description: Package Specification; ComponentLink3URL: http://www.analog.com/static/imported-files/packages/PKG_PDF/LFCSP(CP)/CP_16_3.pdf; ComponentLink4Description: URL Link1; ComponentLink4URL: Product URL:http://www.analog.com/en/special-linear-functions/comparators/adcmp563/products/product.html
footprint ADI-CP-16-3_N (QFN, 16-Leads, Body 3x3mm, Pitch 0.5mm, Thermal Pad 1.5x1.5mm, IPC Medium Density)
footprint ADI-CP-16-3_L (QFN, 16-Leads, Body 3x3mm, Pitch 0.5mm, Thermal Pad 1.5x1.5mm, IPC High Density)
footprint ADI-CP-16-3_M (QFN, 16-Leads, Body 3x3mm, Pitch 0.5mm, Thermal Pad 1.5x1.5mm, IPC Low Density)
part A pins: 1 -INA (in) "Inverting Analog Input of the Differential Input Stage for Channel A. The Inverting A input must be driven in conjunction with the Noninverting A input.", 2 +INA (in) "Noninverting Analog Input of the Differential Input Stage for Channel A. The Noninverting A input must be driven in conjunction with the Inverting A input.", 11 QA (oe) "One of Two Complementary Outputs for Channel A. QA is logic high if the analog voltage at the noninverting input is greater than the analog voltage at the inverting input (provided the comparator is in compare mode). See the (See Datasheet)", 12 ~{QA} (oe) "One of Two Complementary Outputs for Channel A. Q\A\ is logic low if the analog voltage at the noninverting input is greater than the analog voltage at the inverting input (provided the comparator is in compare mode). See (See Datasheet)", 14 LEA (in) "One of Two Complementary Inputs for Channel A Latch Enable. In compare mode (logic high), the output tracks change at the input of the comparator. In latch mode (logic low), the output reflects the input state just prior to (See Datasheet)", 15 ~{LEA} (in) "One of Two Complementary Inputs for Channel A Latch Enable. In compare mode (logic low), the output tracks change at the input of the comparator. In latch mode (logic high), the output reflects the input state just prior to (See Datasheet)"
part B pins: 3 +INB (in) "Noninverting Analog Input of the Differential Input Stage for Channel B. The Noninverting B input must be driven in conjunction with the Inverting B input.", 4 -INB (in) "Inverting Analog Input of the Differential Input Stage for Channel B. The Inverting B input must be driven in conjunction with the Noninverting B input.", 6 ~{LEB} (in) "One of Two Complementary Inputs for Channel B Latch Enable. In compare mode (logic low), the output tracks change at the input of the comparator. In latch mode (logic high), the output reflects the input state just prior to (See Datasheet)", 7 LEB (in) "One of Two Complementary Inputs for Channel B Latch Enable. In compare mode (logic high), the output tracks change at the input of the comparator. In latch mode (logic low), the output reflects the input state just prior to (See Datasheet)", 9 ~{QB} (oe) "One of Two Complementary Outputs for Channel B. Q\B\ is logic low if the analog voltage at the noninverting input is greater than the analog voltage at the inverting input (provided the comparator is in compare mode). See (See Datasheet)", 10 QB (oe) "One of Two Complementary Outputs for Channel B. QB is logic high if the analog voltage at the noninverting input is greater than the analog voltage at the inverting input (provided the comparator is in compare mode). See the (See Datasheet)"
part C pins: 5 VCC (power) "Positive Supply Terminal.", 8 GND (power) "Analog Ground.", 13 GND (power) "Analog Ground.", 16 VEE (power) "Negative Supply Terminal.", 17 EP (power) "Exposed Pad. The exposed pad should be either connected to VEE or left floating."